# Altium integrated library ALTIUM-WCAP-ASLL-rev17a.IntLib: 95 symbols (part 2 of 2)
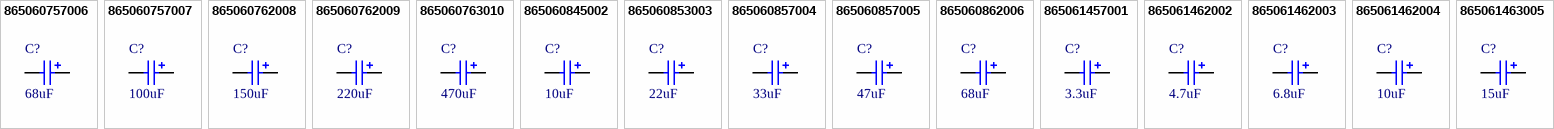
[diagram p3: symbols 865060757006 to 865061463005]

## 865061457001
designator C?  value 3.3uF
WCAP-ASLL Aluminum Electrolytic Capacitors, size Ф10x10.5mm, 450V DC, 3.3uF; Part Number: 865061457001; Rated Voltage: 450V DC; ComponentLink1Description: Manufacturer; ComponentLink1URL: http://www.we-online.de; ComponentLink2Description: Datasheet; ComponentLink2URL: http://katalog.we-online.de/pbs/datasheet/865061457001.pdf; Published Date: June 2017; Publisher: Wurth Elektronik; Size: Ф10x10.5mm; Life Cycle: 5000h; Operating Temperature: -40 °C up to +105 °C
footprint WCAP-ASLL_10x10.5
pins: 1 P, 2 N

## 865061462002
designator C?  value 4.7uF
WCAP-ASLL Aluminum Electrolytic Capacitors, size Ф12.5x14mm, 450V DC, 4.7uF; Part Number: 865061462002; Rated Voltage: 450V DC; ComponentLink1Description: Manufacturer; ComponentLink1URL: http://www.we-online.de; ComponentLink2Description: Datasheet; ComponentLink2URL: http://katalog.we-online.de/pbs/datasheet/865061462002.pdf; Published Date: June 2017; Publisher: Wurth Elektronik; Size: Ф12.5x14mm; Life Cycle: 5000h; Operating Temperature: -40 °C up to +105 °C
footprint WCAP-ASLL_12.5x14
pins: 1 P, 2 N

## 865061462003
designator C?  value 6.8uF
WCAP-ASLL Aluminum Electrolytic Capacitors, size Ф12.5x14mm, 450V DC, 6.8uF; Part Number: 865061462003; Rated Voltage: 450V DC; ComponentLink1Description: Manufacturer; ComponentLink1URL: http://www.we-online.de; ComponentLink2Description: Datasheet; ComponentLink2URL: http://katalog.we-online.de/pbs/datasheet/865061462003.pdf; Published Date: June 2017; Publisher: Wurth Elektronik; Size: Ф12.5x14mm; Life Cycle: 5000h; Operating Temperature: -40 °C up to +105 °C
footprint WCAP-ASLL_12.5x14
pins: 1 P, 2 N

## 865061462004
designator C?  value 10uF
WCAP-ASLL Aluminum Electrolytic Capacitors, size Ф12.5x14mm, 450V DC, 10uF; Part Number: 865061462004; Rated Voltage: 450V DC; ComponentLink1Description: Manufacturer; ComponentLink1URL: http://www.we-online.de; ComponentLink2Description: Datasheet; ComponentLink2URL: http://katalog.we-online.de/pbs/datasheet/865061462004.pdf; Published Date: June 2017; Publisher: Wurth Elektronik; Size: Ф12.5x14mm; Life Cycle: 5000h; Operating Temperature: -40 °C up to +105 °C
footprint WCAP-ASLL_12.5x14
pins: 1 P, 2 N

## 865061463005
designator C?  value 15uF
WCAP-ASLL Aluminum Electrolytic Capacitors, size Ф16x17mm, 450V DC, 15uF; Part Number: 865061463005; Rated Voltage: 450V DC; ComponentLink1Description: Manufacturer; ComponentLink1URL: http://www.we-online.de; ComponentLink2Description: Datasheet; ComponentLink2URL: http://katalog.we-online.de/pbs/datasheet/865061463005.pdf; Published Date: June 2017; Publisher: Wurth Elektronik; Size: Ф16x17mm; Life Cycle: 5000h; Operating Temperature: -40 °C up to +105 °C
footprint WCAP-ASLL_16x17
pins: 1 P, 2 N